# EAGLE library part 236-506/000-009 (library con-wago_236)
Serie 236, Stand: 01.01.2012. Die jeweils aktuellen Daten zu diesem Artikel finden Sie in unserem Produktkatalog, den Sie unter www.wago.com einsehen können. As of: 01/01/2012. Please find the newest data for this article in our product catalogue, which can be viewed under www.wago.com.
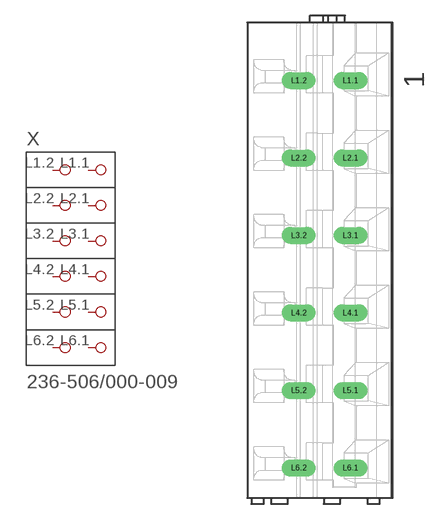
[diagram p192: symbol with the pads of P-236-506; footprint P-236-506]

Designator prefix X

## 236-506/000-009  [P-236-506]
L1.1  P1.1
L1.2  P1.2
L2.1  P2.1
L2.2  P2.2
L3.1  P3.1
L3.2  P3.2
L4.1  P4.1
L4.2  P4.2
L5.1  P5.1
L5.2  P5.2
L6.1  P6.1
L6.2  P6.2

## Footprint P-236-506 (pad centres in mm)
drill 1.1 long: L1.1 2.957,17.35; L1.2 -2.043,17.35; L2.1 2.957,9.85; L2.2 -2.043,9.85; L3.1 2.957,2.35; L3.2 -2.043,2.35; L4.1 2.957,-5.15; L4.2 -2.043,-5.15; L5.1 2.957,-12.65; L5.2 -2.043,-12.65; L6.1 2.957,-20.15; L6.2 -2.043,-20.15